# Altium footprint library Common_SMD.PcbLib: 74 footprints (part 2 of 5)
Each footprint in its own frame and in the unit in brackets; x right, y up, seen from the top. Pads: shape width x height; smd on the part's side, far side on the other; paste and mask are expansions set on the pad; w line width, h text height; cw(c..) or ccw(c..) is an arc to the next point about the centre after c.
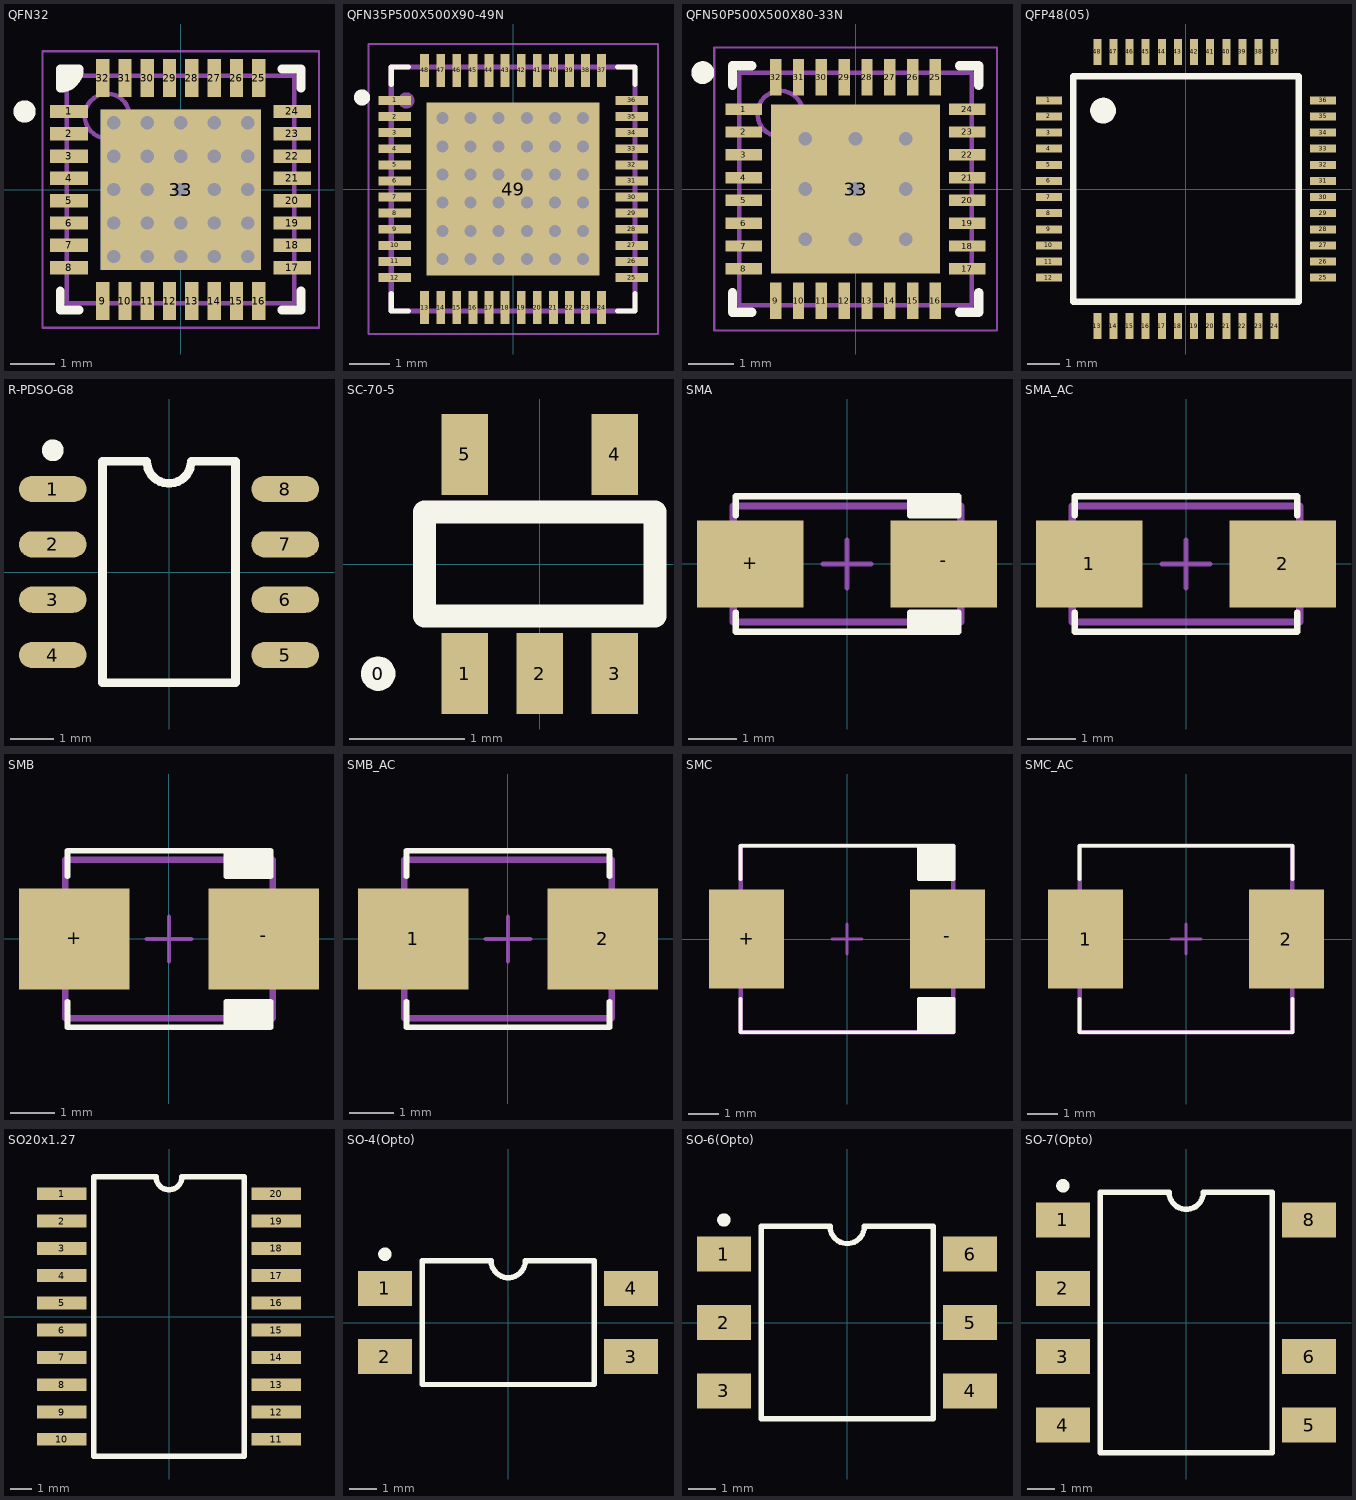
[diagram p1: the footprints below, top view; thin cyan lines are the x and y axes]

## QFN32 [mm] "QFN, 32-Leads, Body 5.00x5.00mm, Pitch 0.50mm, Thermal Pad 3.60x3.60mm, IPC Medium Density (Vanchik for ESP8266EX)"
height 0.85
pads (33):
  rect 0.85x0.3 smd: 1(-2.5,1.75) 2(-2.5,1.25) 3(-2.5,0.75) 4(-2.5,0.25) 5(-2.5,-0.25) 6(-2.5,-0.75) 7(-2.5,-1.25) 8(-2.5,-1.75) 17(2.5,-1.75) 18(2.5,-1.25) 19(2.5,-0.75) 20(2.5,-0.25) 21(2.5,0.25) 22(2.5,0.75) 23(2.5,1.25) 24(2.5,1.75)
  rect 0.3x0.85 smd: 9(-1.75,-2.5) 10(-1.25,-2.5) 11(-0.75,-2.5) 12(-0.25,-2.5) 13(0.25,-2.5) 14(0.75,-2.5) 15(1.25,-2.5) 16(1.75,-2.5) 25(1.75,2.5) 26(1.25,2.5) 27(0.75,2.5) 28(0.25,2.5) 29(-0.25,2.5) 30(-0.75,2.5) 31(-1.25,2.5) 32(-1.75,2.5)
  rect 3.6x3.6 smd: 33(0,0)
via 0,0 diameter 0.5 hole 0.3
via -0.75,0 diameter 0.5 hole 0.3
via 1.5,0 diameter 0.5 hole 0.3
via -1.5,0 diameter 0.5 hole 0.3
via 0.75,0 diameter 0.5 hole 0.3
via 0.75,0.75 diameter 0.5 hole 0.3
via -1.5,0.75 diameter 0.5 hole 0.3
via 1.5,0.75 diameter 0.5 hole 0.3
via -0.75,0.75 diameter 0.5 hole 0.3
via 0,0.75 diameter 0.5 hole 0.3
via 0.75,1.5 diameter 0.5 hole 0.3
via -1.5,1.5 diameter 0.5 hole 0.3
via 1.5,1.5 diameter 0.5 hole 0.3
via -0.75,1.5 diameter 0.5 hole 0.3
via 0,1.5 diameter 0.5 hole 0.3
via 0.75,-0.75 diameter 0.5 hole 0.3
via -1.5,-0.75 diameter 0.5 hole 0.3
via 1.5,-0.75 diameter 0.5 hole 0.3
via -0.75,-0.75 diameter 0.5 hole 0.3
via 0,-0.75 diameter 0.5 hole 0.3
via 0.75,-1.5 diameter 0.5 hole 0.3
via -1.5,-1.5 diameter 0.5 hole 0.3
via 1.5,-1.5 diameter 0.5 hole 0.3
via -0.75,-1.5 diameter 0.5 hole 0.3
via 0,-1.5 diameter 0.5 hole 0.3
Bottom Layer:
  rectangle: -1.8,-1.8 1.8,1.8
Top Overlay:
  circle w0.25: c-3.5,1.75 r0.125
  region: -2.7,2.7 -2.275,2.7 -2.275,2.551 -2.551,2.275 -2.7,2.275
  lines w0.2: -2.7,-2.275 -2.7,-2.7 -2.275,-2.7 ; 2.275,-2.7 2.7,-2.7 2.7,-2.275 ; 2.275,2.7 2.7,2.7 2.7,2.275 ; -2.7,2.275 ccw(c-2.7,2.7) -2.275,2.7 -2.7,2.7 -2.7,2.275
Bottom Solder:
  rectangle: -1.9,-1.9 1.9,1.9
Mechanical 13:
  circle w0.1: c-1.65,1.65 r0.5
  lines w0.1: -2.55,-2.55 -2.55,2.55 2.55,2.55 2.55,-2.55 -2.55,-2.55
Mechanical 15:
  lines w0.05: -3.1,-3.1 -3.1,3.1 3.1,3.1 3.1,-3.1 -3.1,-3.1
  lines w0.1: -0.5,0 0.5,0 ; 0,-0.5 0,0.5
3D body: height 0.85, standoff 0, extent -2.55,-2.55 2.55,2.55

## QFN35P500X500X90-49N [mm]
pads (49):
  rect 0.81x0.22 smd: 1(-2.945,2.2) 2(-2.945,1.8) 3(-2.945,1.4) 4(-2.945,1) 5(-2.945,0.6) 6(-2.945,0.2) 7(-2.945,-0.2) 8(-2.945,-0.6) 9(-2.945,-1) 10(-2.945,-1.4) 11(-2.945,-1.8) 12(-2.945,-2.2) 25(2.945,-2.2) 26(2.945,-1.8) 27(2.945,-1.4) 28(2.945,-1) 29(2.945,-0.6) 30(2.945,-0.2) 31(2.945,0.2) 32(2.945,0.6) 33(2.945,1) 34(2.945,1.4) 35(2.945,1.8) 36(2.945,2.2)
  rect 0.22x0.81 smd: 13(-2.2,-2.945) 14(-1.8,-2.945) 15(-1.4,-2.945) 16(-1,-2.945) 17(-0.6,-2.945) 18(-0.2,-2.945) 19(0.2,-2.945) 20(0.6,-2.945) 21(1,-2.945) 22(1.4,-2.945) 23(1.8,-2.945) 24(2.2,-2.945) 37(2.2,2.945) 38(1.8,2.945) 39(1.4,2.945) 40(1,2.945) 41(0.6,2.945) 42(0.2,2.945) 43(-0.2,2.945) 44(-0.6,2.945) 45(-1,2.945) 46(-1.4,2.945) 47(-1.8,2.945) 48(-2.2,2.945)
  rect 4.3x4.3 smd: 49(0,0)
via -1.76,1.76 diameter 0.5 hole 0.3
via -0.36,1.76 diameter 0.5 hole 0.3
via 0.34,1.76 diameter 0.5 hole 0.3
via 1.04,1.76 diameter 0.5 hole 0.3
via 1.74,1.76 diameter 0.5 hole 0.3
via -1.76,1.06 diameter 0.5 hole 0.3
via -1.06,1.06 diameter 0.5 hole 0.3
via -0.36,1.06 diameter 0.5 hole 0.3
via 0.34,1.06 diameter 0.5 hole 0.3
via 1.04,1.06 diameter 0.5 hole 0.3
via 1.74,1.06 diameter 0.5 hole 0.3
via -1.76,0.36 diameter 0.5 hole 0.3
via -1.06,0.36 diameter 0.5 hole 0.3
via -0.36,0.36 diameter 0.5 hole 0.3
via 0.34,0.36 diameter 0.5 hole 0.3
via 1.04,0.36 diameter 0.5 hole 0.3
via 1.74,0.36 diameter 0.5 hole 0.3
via -1.76,-0.34 diameter 0.5 hole 0.3
via -1.06,-0.34 diameter 0.5 hole 0.3
via -0.36,-0.34 diameter 0.5 hole 0.3
via 0.34,-0.34 diameter 0.5 hole 0.3
via 1.04,-0.34 diameter 0.5 hole 0.3
via 1.74,-0.34 diameter 0.5 hole 0.3
via -1.76,-1.04 diameter 0.5 hole 0.3
via -1.06,-1.04 diameter 0.5 hole 0.3
via -0.36,-1.04 diameter 0.5 hole 0.3
via 0.34,-1.04 diameter 0.5 hole 0.3
via 1.04,-1.04 diameter 0.5 hole 0.3
via 1.74,-1.04 diameter 0.5 hole 0.3
via -1.76,-1.74 diameter 0.5 hole 0.3
via -1.06,-1.74 diameter 0.5 hole 0.3
via -0.36,-1.74 diameter 0.5 hole 0.3
via 0.34,-1.74 diameter 0.5 hole 0.3
via 1.04,-1.74 diameter 0.5 hole 0.3
via 1.74,-1.74 diameter 0.5 hole 0.3
via -1.06,1.76 diameter 0.5 hole 0.3
Top Overlay:
  circle w0.2: c-3.755,2.275 r0.1
  lines w0.127: -3.03,-2.6 -3.03,-3.03 -2.6,-3.03 ; -3.03,2.6 -3.03,3.03 -2.6,3.03 ; 2.6,-3.03 3.03,-3.03 3.03,-2.6 ; 2.6,3.03 3.03,3.03 3.03,2.6
Top Paste:
  region: -1.362,1.36 1.36,1.36 1.36,-1.362 -1.362,-1.362
Mechanical 4:
  circle w0.2: c-2.655,2.2 r0.1
  circle w0.2: c-2.655,2.2 r0.1
  lines w0.127: -3.03,-3.03 3.03,-3.03 ; -3.03,-3.03 -3.03,3.03 ; -3.03,-3.03 3.03,-3.03 ; -3.03,-3.03 -3.03,3.03 ; -3.03,3.03 3.03,3.03 ; -3.03,3.03 3.03,3.03 ; 3.03,-3.03 3.03,3.03 ; 3.03,-3.03 3.03,3.03
Mechanical 16:
  lines w0.05: -3.6,-3.6 3.6,-3.6 3.6,3.6 -3.6,3.6 -3.6,-3.6

## QFN50P500X500X80-33N [mm]
height 0.9
pads (33):
  rect 0.8x0.25 smd: 1(-2.45,1.75) 2(-2.45,1.25) 3(-2.45,0.75) 4(-2.45,0.25) 5(-2.45,-0.25) 6(-2.45,-0.75) 7(-2.45,-1.25) 8(-2.45,-1.75) 17(2.45,-1.75) 18(2.45,-1.25) 19(2.45,-0.75) 20(2.45,-0.25) 21(2.45,0.25) 22(2.45,0.75) 23(2.45,1.25) 24(2.45,1.75)
  rect 0.25x0.8 smd: 9(-1.75,-2.45) 10(-1.25,-2.45) 11(-0.75,-2.45) 12(-0.25,-2.45) 13(0.25,-2.45) 14(0.75,-2.45) 15(1.25,-2.45) 16(1.75,-2.45) 25(1.75,2.45) 26(1.25,2.45) 27(0.75,2.45) 28(0.25,2.45) 29(-0.25,2.45) 30(-0.75,2.45) 31(-1.25,2.45) 32(-1.75,2.45)
  rect 3.7x3.7 smd: 33(0,0)
via -1.1,1.1 diameter 0.7 hole 0.3
via 0,1.1 diameter 0.7 hole 0.3
via 1.1,1.1 diameter 0.7 hole 0.3
via -1.1,0 diameter 0.7 hole 0.3
via 0,0 diameter 0.7 hole 0.3
via 1.1,0 diameter 0.7 hole 0.3
via -1.1,-1.1 diameter 0.7 hole 0.3
via 0,-1.1 diameter 0.7 hole 0.3
via 1.1,-1.1 diameter 0.7 hole 0.3
Top Overlay:
  circle w0.25: c-3.35,2.55 r0.125
  lines w0.2: -2.7,-2.275 -2.7,-2.7 -2.275,-2.7 ; -2.7,2.275 -2.7,2.7 -2.275,2.7 ; 2.275,-2.7 2.7,-2.7 2.7,-2.275 ; 2.275,2.7 2.7,2.7 2.7,2.275
Mechanical 5:
  circle w0.1: c-1.65,1.65 r0.5
  lines w0.1: -2.55,-2.55 -2.55,2.55 2.55,2.55 2.55,-2.55 -2.55,-2.55
  text ".Designator" at -1.225,3.275 h1.2
Mechanical 15:
  lines w0.05: -3.1,-3.1 -3.1,3.1 3.1,3.1 3.1,-3.1 -3.1,-3.1
  lines w0.1: -0.5,0 0.5,0 ; 0,-0.5 0,0.5
3D body "QFN127P600-8N_(ESP32-C3).step": height 0.9, standoff 0, extent -2.56,-2.56 2.56,2.56

## QFP48(05) [mm]
pads (48):
  rect 0.8x0.25 smd: 1(-4.25,2.75) 2(-4.25,2.25) 3(-4.25,1.75) 4(-4.25,1.25) 5(-4.25,0.75) 6(-4.25,0.25) 7(-4.25,-0.25) 8(-4.25,-0.75) 9(-4.25,-1.25) 10(-4.25,-1.75) 11(-4.25,-2.25) 12(-4.25,-2.75) 25(4.25,-2.75) 26(4.25,-2.25) 27(4.25,-1.75) 28(4.25,-1.25) 29(4.25,-0.75) 30(4.25,-0.25) 31(4.25,0.25) 32(4.25,0.75) 33(4.25,1.25) 34(4.25,1.75) 35(4.25,2.25) 36(4.25,2.75)
  rect 0.25x0.8 smd: 13(-2.75,-4.25) 14(-2.25,-4.25) 15(-1.75,-4.25) 16(-1.25,-4.25) 17(-0.75,-4.25) 18(-0.25,-4.25) 19(0.25,-4.25) 20(0.75,-4.25) 21(1.25,-4.25) 22(1.75,-4.25) 23(2.25,-4.25) 24(2.75,-4.25) 37(2.75,4.25) 38(2.25,4.25) 39(1.75,4.25) 40(1.25,4.25) 41(0.75,4.25) 42(0.25,4.25) 43(-0.25,4.25) 44(-0.75,4.25) 45(-1.25,4.25) 46(-1.75,4.25) 47(-2.25,4.25) 48(-2.75,4.25)
Top Overlay:
  circle w0.4: c-2.57,2.43 r0.2
  lines w0.2: -3.5,-3.5 3.5,-3.5 3.5,3.5 -3.5,3.5 -3.5,-3.5
3D body "LQFP48.STEP": height 1.5, standoff 0, extent -4.5,-4.5 4.5,4.5

## R-PDSO-G8 [mm] "SOIC, 8-Leads, Body 4.9x3.9mm, Pitch 1.27mm"
height 1.75
pads (8):
  oval 1.55x0.6 smd: 1(-2.667,1.905) 2(-2.667,0.635) 3(-2.667,-0.635) 4(-2.667,-1.905) 5(2.667,-1.905) 6(2.667,-0.635) 7(2.667,0.635) 8(2.667,1.905)
Top Overlay:
  circle w0.25: c-2.667,2.794 r0.125
  lines w0.2: -1.524,-2.54 1.524,-2.54 1.524,2.54 0.508,2.54 cw(c0,2.54) -0.508,2.54 -1.524,2.54 -1.524,-2.54
3D body "SO-8.STEP": height 1.45, standoff 0, extent -2.972,-2.45 2.972,2.452

## SC-70-5 [mm] "Площадка для микросхемы в корпусе SC70, делал по документации на NC7SZ08P5X (http://www.fairchildsemi.com/)"
height 1.1
pads (6):
  round 0.3 on Top Overlay: 0(-1.4,-0.95)
  rect 0.4x0.7 smd: 1(-0.65,-0.95) 2(0,-0.95) 3(0.65,-0.95) 4(0.65,0.95) 5(-0.65,0.95)
Top Overlay:
  lines w0.2: -1,-0.45 1,-0.45 1,0.45 -1,0.45 -1,-0.45
3D body "SOT-323-5.STEP": height 1.1, standoff 0, extent -1.1,-1.2 1.1,1.2

## SMA [mm]
pads (2):
  rect 2.2x1.8 smd: +(-2,0) -(2,0)
Top Overlay:
  rectangle: 1.3,1 2.3,1.4
  rectangle: 1.3,-1.4 2.3,-1
  lines w0.127: -2.3,-1 -2.3,-1.4 2.3,-1.4 2.3,-1 1.3,-1 1.3,-1.4 ; -2.3,1 -2.3,1.4 2.3,1.4 2.3,1 1.3,1 1.3,1.4
Mechanical 15:
  lines w0.1: -0.5,0 0.5,0 ; 0,-0.5 0,0.5
Mechanical 16:
  lines w0.15: -2.349,-1.2 -2.349,1.2 2.349,1.2 2.349,-1.2 -2.349,-1.2
3D body "SW3dPS-DO-214AC SMA.STEP": height 2.42, standoff 0.02, extent -2.6,-1.3 2.6,1.3

## SMA_AC [mm]
pads (2):
  rect 2.2x1.8 smd: 1(-2,0) 2(2,0)
Top Overlay:
  lines w0.127: -2.3,-1 -2.3,-1.4 2.3,-1.4 2.3,-1 ; -2.3,1 -2.3,1.4 2.3,1.4 2.3,1
Mechanical 15:
  lines w0.1: -0.5,0 0.5,0 ; 0,-0.5 0,0.5
Mechanical 16:
  lines w0.15: -2.349,-1.2 2.349,-1.2 2.349,1.2 -2.349,1.2 -2.349,-1.2
3D body "SW3dPS-DO-214AC SMA.STEP": height 2.42, standoff 0.02, extent -2.6,-1.3 2.6,1.3

## SMB [mm]
pads (2):
  rect 2.5x2.3 smd: +(-2.15,0) -(2.15,0)
Top Overlay:
  rectangle: 1.3,-2 2.3,-1.425
  rectangle: 1.3,1.425 2.3,2
  lines w0.127: -2.3,-1.425 -2.3,-2 2.3,-2 2.3,-1.425 1.3,-1.425 1.3,-2 ; -2.3,1.425 -2.3,2 2.3,2 2.3,1.425 1.3,1.425 1.3,2
Mechanical 15:
  lines w0.1: -0.5,0 0.5,0 ; 0,-0.5 0,0.5
Mechanical 16:
  lines w0.15: -2.349,-1.8 2.349,-1.8 2.349,1.8 -2.349,1.8 -2.349,-1.8
3D body "SMB(DO-214AA).STEP": height 2.45, standoff 0.03, extent -2.801,-1.95 2.699,1.95

## SMB_AC [mm]
pads (2):
  rect 2.5x2.3 smd: 1(-2.15,0) 2(2.15,0)
Top Overlay:
  lines w0.127: -2.3,-1.425 -2.3,-2 2.3,-2 2.3,-1.425 ; -2.3,1.425 -2.3,2 2.3,2 2.3,1.425
Mechanical 15:
  lines w0.1: -0.5,0 0.5,0 ; 0,-0.5 0,0.5
Mechanical 16:
  lines w0.15: -2.349,-1.8 2.349,-1.8 2.349,1.8 -2.349,1.8 -2.349,-1.8
3D body "SMB(DO-214AA).STEP": height 2.45, standoff 0.03, extent -2.75,-1.95 2.75,1.95

## SMC [mm]
pads (2):
  rect 2.5x3.3 smd: +(-3.35,0) -(3.35,0)
Top Overlay:
  rectangle: 2.4,-3.11 3.55,-2
  rectangle: 2.4,2 3.55,3.11
  lines w0.127: -3.55,-2 -3.55,-3.11 3.55,-3.11 3.55,-2 2.4,-2 2.4,-3.11 ; -3.55,2 -3.55,3.11 3.55,3.11 3.55,2 2.4,2 2.4,3.11
Mechanical 15:
  lines w0.1: -0.5,0 0.5,0 ; 0,-0.5 0,0.5
Mechanical 16:
  lines w0.15: -3.55,-3.11 -3.55,3.11 3.55,3.11 3.55,-3.11 -3.55,-3.11
3D body "SMC.step": height 2.27, standoff 0, extent -3.97,-2.953 3.97,2.952

## SMC_AC [mm]
pads (2):
  rect 2.5x3.3 smd: 1(-3.35,0) 2(3.35,0)
Top Overlay:
  lines w0.127: -3.55,-2 -3.55,-3.11 3.55,-3.11 3.55,-2 ; -3.55,2 -3.55,3.11 3.55,3.11 3.55,2
Mechanical 15:
  lines w0.1: -0.5,0 0.5,0 ; 0,-0.5 0,0.5
Mechanical 16:
  lines w0.15: -3.55,-3.11 -3.55,3.11 3.55,3.11 3.55,-3.11 -3.55,-3.11
3D body "SMC.step": height 2.27, standoff 0, extent -3.97,-2.953 3.97,2.952

## SO20x1.27 [mm] "20-pin SOIC"
pads (20):
  rect 2.3x0.6 smd: 1(-5,5.715) 2(-5,4.445) 3(-5,3.175) 4(-5,1.905) 5(-5,0.635) 6(-5,-0.635) 7(-5,-1.905) 8(-5,-3.175) 9(-5,-4.445) 10(-5,-5.715) 11(5,-5.715) 12(5,-4.445) 13(5,-3.175) 14(5,-1.905) 15(5,-0.635) 16(5,0.635) 17(5,1.905) 18(5,3.175) 19(5,4.445) 20(5,5.715)
Top Overlay:
  lines w0.25: -3.5,-6.5 3.5,-6.5 3.5,6.5 0.6,6.5 cw(c0,6.5) -0.6,6.5 -3.5,6.5 -3.5,-6.5
3D body "SO-20.stp": height 2.5, standoff 0, extent -5.193,-6.5 5.207,6.5

## SO-4(Opto) [mm]
pads (4):
  rect 2x1.3 smd: 1(-4.572,1.27) 2(-4.572,-1.27) 3(4.572,-1.27) 4(4.572,1.27)
Top Overlay:
  circle w0.25: c-4.572,2.54 r0.125
  lines w0.2: -3.19,-2.3 3.21,-2.3 3.21,2.3 0.643,2.3 cw(c0.008,2.3) -0.627,2.3 -3.19,2.3 -3.19,-2.3
3D body "LTV-817S.STEP": height 3.88, standoff 0.01, extent -5.073,-2.29 5.073,2.29

## SO-6(Opto) [mm]
pads (6):
  rect 2x1.3 smd: 1(-4.572,2.54) 2(-4.572,0) 3(-4.572,-2.54) 4(4.572,-2.54) 5(4.572,0) 6(4.572,2.54)
Top Overlay:
  circle w0.25: c-4.572,3.81 r0.125
  lines w0.2: -3.19,-3.57 3.21,-3.57 3.21,3.57 0.643,3.57 cw(c0.008,3.57) -0.627,3.57 -3.19,3.57 -3.19,-3.57
3D body "LTV-817S.STEP": height 3.88, standoff 0.01, extent -5.073,-1.02 5.073,3.56
3D body "LTV-817S.STEP": height 3.88, standoff 0.01, extent -5.073,-3.56 5.073,1.02

## SO-7(Opto) [mm]
pads (7):
  rect 2x1.3 smd: 1(-4.572,3.81) 2(-4.572,1.27) 3(-4.572,-1.27) 4(-4.572,-3.81) 5(4.572,-3.81) 6(4.572,-1.27) 8(4.572,3.81)
Top Overlay:
  circle w0.25: c-4.572,5.08 r0.125
  lines w0.2: -3.19,-4.84 3.21,-4.84 3.21,4.84 0.643,4.84 cw(c0.008,4.84) -0.627,4.84 -3.19,4.84 -3.19,-4.84
3D body "LTV-817S.STEP": height 3.88, standoff 0.01, extent -5.073,0.25 5.073,4.83
3D body "LTV-817S.STEP": height 3.88, standoff 0.01, extent -5.073,-2.29 5.073,2.29
3D body "LTV-817S.STEP": height 3.88, standoff 0.01, extent -5.073,-4.83 5.073,-0.25